# Altium footprint library Switch.PcbLib: 18 footprints (part 1 of 2)
Each footprint in its own frame and in the unit in brackets; x right, y up, seen from the top. Pads: shape width x height; smd on the part's side, far side on the other; paste and mask are expansions set on the pad; w line width, h text height; cw(c..) or ccw(c..) is an arc to the next point about the centre after c.
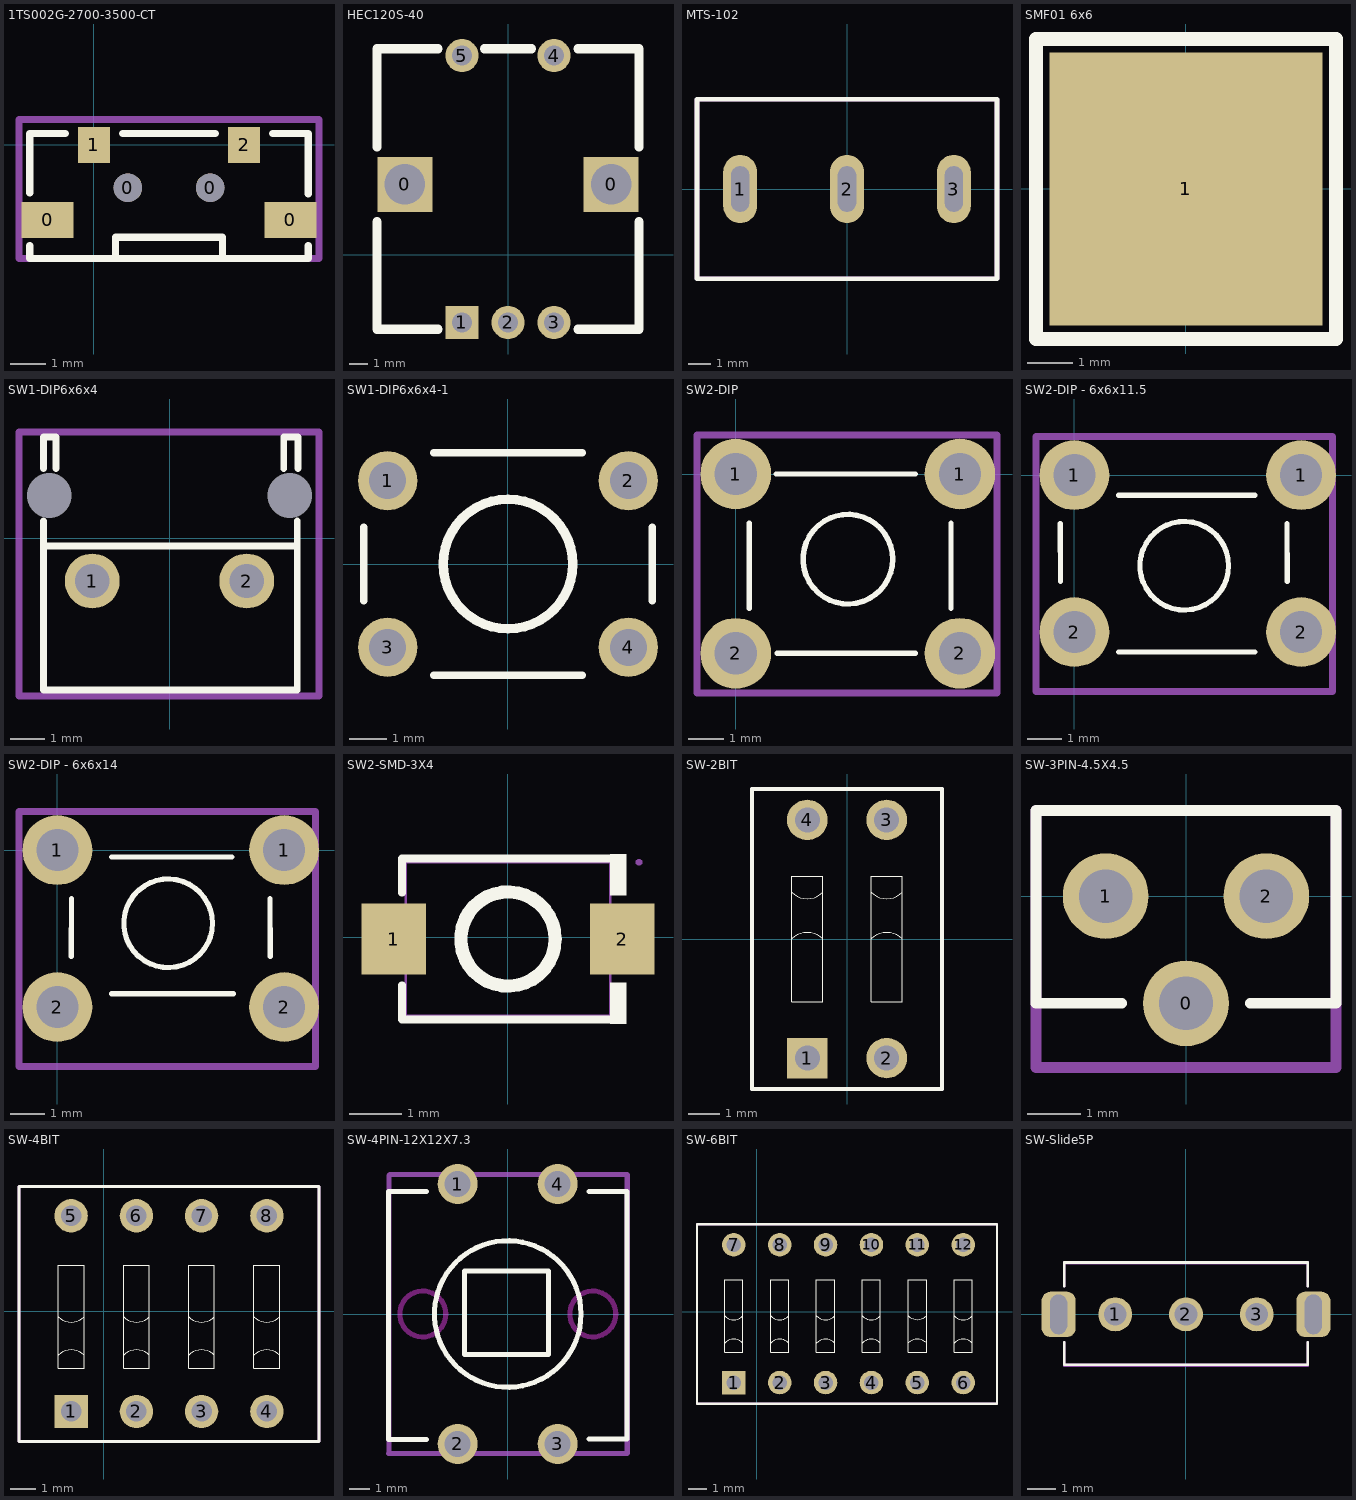
[diagram p0: the footprints below, top view; thin cyan lines are the x and y axes]

## 1TS002G-2700-3500-CT [mm]
pads (6):
  rect 1.45x1 smd: 0(-1.3,-2.1) 0(5.5,-2.1)
  round 0.8 hole 0.8 unplated: 0(0.95,-1.2) 0(3.25,-1.2)
  rect 0.9x1 smd: 1(0,0) 2(4.2,0)
Top Overlay:
  lines w0.2: -1.8,-2.825 -1.8,-3.185 6,-3.185 6,-2.825 ; -1.8,-1.35 -1.8,0.315 -0.8,0.315 ; 0.6,-3.185 0.6,-2.585 3.6,-2.585 3.6,-3.185 ; 0.8,0.315 3.4,0.315 ; 5,0.315 6,0.315 6,-1.375
Mechanical 13:
  lines w0.2: -2.1,-3.185 6.3,-3.185 6.3,0.715 -2.1,0.715 -2.1,-3.185
  text ".Designator" at -0.3,-1.485 h1
Mechanical 15:
  lines w0.2: -2.1,-3.185 6.3,-3.185 6.3,0.715 -2.1,0.715 -2.1,-3.185
  text ".Comment" at -0.3,-1.485 h1
3D body "TL3330AFxxxQG.stp": height 3.5, standoff 0, extent -1.8,-3.185 6,0.324

## HEC120S-40 [mm]
pads (7):
  rect 3x3 hole 2.2 square: 0(-5.6,3.81) 0(5.6,3.81)
  rect 1.8x1.8 hole 1.1: 1(-2.5,-3.69)
  round 1.8 hole 1.1: 2(0,-3.69) 3(2.5,-3.69) 4(2.5,10.81) 5(-2.5,10.81)
Top Overlay:
  lines w0.5: -7.112,1.778 -7.112,-4.064 -3.81,-4.064 ; -7.112,5.842 -7.112,11.176 -3.81,11.176 ; -1.27,11.176 1.27,11.176 ; 3.81,-4.064 7.112,-4.064 7.112,1.778 ; 3.81,11.176 7.112,11.176 7.112,5.842
3D body "num xoay.stp": height 17.7, standoff -5.8, extent -6.996,-4.091 6.996,11.203

## MTS-102 [mm]
pads (3):
  oval 1.5x3 hole 2 slot 0.8 at 0 deg: 1(-4.7,0) 2(0,0) 3(4.7,0)
Top Overlay:
  lines w0.2: -6.6,-3.95 -6.6,3.95 6.6,3.95 6.6,-3.95 -6.6,-3.95
Mechanical 13:
  lines w0.2: -6.6,-3.95 -6.6,3.95 6.6,3.95 6.6,-3.95 -6.6,-3.95
  text ".Designator" at -2.7,-0.517 h1.5

## SMF01 6x6 [mm]
pads (1):
  rect 6x6 smd: 1(0,0)
Top Overlay:
  lines w0.3: -3.302,-3.302 -3.302,3.302 3.302,3.302 3.302,-3.302 -3.302,-3.302
3D body: height 10, standoff 0, extent -3.302,-3.302 3.302,3.302

## SW1-DIP6x6x4 [mm]
pads (4):
  round 1.6 hole 1: 1(-2.25,-1.245) 2(2.25,-1.245)
  round 0 hole 1.3: ""(-3.5,1.245) ""(3.5,1.245)
Top Overlay:
  lines w0.2: -3.672,-0.229 3.694,-0.229 ; -3.672,0.508 -3.672,-4.42 3.719,-4.42 3.719,0.508 ; -3.672,2.032 -3.672,2.946 -3.302,2.946 -3.302,2.032 ; 3.327,2.032 3.327,2.946 3.744,2.946 3.744,2.032
Mechanical 13:
  lines w0.2: -4.384,-4.598 -4.384,3.098 -4.104,3.098 4.354,3.098 4.354,-4.598 -4.384,-4.598
  text ".Designator" at -3.454,-0.279 h1.5
Mechanical 15:
  lines w0.2: -4.384,-4.598 4.354,-4.598 4.354,3.098 -4.104,3.098 -4.384,3.098 -4.384,-4.598
  text ".Comment" at -3.454,-0.279 h1.5
3D body "SW3dPS-SWITCH, TACTILE, RIGHT ANGLE, 12VDC, 50MA, 3.15MM ACTUATOR, WEALTH METAL TC-0240Z.STEP": height 7, standoff -4, extent -3.681,-4.412 3.719,2.888

## SW1-DIP6x6x4-1 [mm]
pads (4):
  round 1.6 hole 1: 1(-3.25,2.25) 2(3.25,2.25) 3(-3.25,-2.25) 4(3.25,-2.25)
Top Overlay:
  circle w0.254: c0,0 r1.75
  lines w0.2: -3.9,-1 -3.9,0 -3.9,1 ; -2,-3 0,-3 2,-3 ; -2,3 0,3 2,3 ; 3.9,-1 3.9,0 3.9,1
3D body "1825910-3.stp": height 4.5, standoff -3.31, extent -3.9,-2.995 3.9,2.995

## SW2-DIP [mm] "SW button 4pin, 250 x250 mil"
height 2.54
pads (4):
  round 2 hole 1.2: 1(0,0) 1(6.35,0) 2(0,-5.08) 2(6.35,-5.08)
Top Overlay:
  circle w0.152: c3.175,-2.413 r1.27
  lines w0.152: 0.381,-3.81 0.381,-1.397 ; 1.143,0 5.08,0 ; 1.168,-5.08 5.08,-5.08 ; 6.096,-3.81 6.096,-1.397
  lines w0.178: 6.071,-5.461 6.096,-5.436
Mechanical 13:
  lines w0.2: -1.1,-6.2 7.4,-6.2 7.4,1.1 -1.1,1.1 -1.1,-6.2
  text ".Designator" at 1.1,-3.3 h1.5
3D body "SW3dPS-.STEP": height 7, standoff -3.5, extent -0.902,-5.588 6.998,0.612

## SW2-DIP - 6x6x11.5 [mm] "SW button 4pin, 250 x250 mil"
height 2.54
pads (4):
  round 2 hole 1.2: 1(0,0) 1(6.5,0) 2(0,-4.5) 2(6.5,-4.5)
Top Overlay:
  circle w0.152: c3.15,-2.6 r1.27
  lines w0.152: -0.404,-1.397 -0.4,-3.05 ; 1.263,-5.075 5.175,-5.075 ; 1.263,-0.575 5.175,-0.575 ; 6.096,-1.397 6.1,-3.05
Mechanical 13:
  lines w0.2: -1.1,-6.2 7.4,-6.2 7.4,1.1 -1.1,1.1 -1.1,-6.2
  text ".Designator" at 1.1,-3.3 h1.5
3D body: height 10, standoff -10, extent 8.55,2.075 8.55,2.075
3D body: height 11.5, standoff 9.5, extent 1.55,-4.122 5.05,-0.622
3D body "User Library-Tact_Switch_TS-064.STEP": height 9.5, standoff -3.5, extent -0.65,-5.35 7,0.65

## SW2-DIP - 6x6x14 [mm] "SW button 4pin, 250 x250 mil"
height 2.54
pads (4):
  round 2 hole 1.2: 1(0,0) 1(6.5,0) 2(0,-4.5) 2(6.5,-4.5)
Top Overlay:
  circle w0.152: c3.175,-2.1 r1.27
  lines w0.152: 0.4,-3.05 0.404,-1.397 ; 1.55,-4.122 5.05,-4.122 ; 1.55,-0.2 5,-0.2 ; 6.096,-1.397 6.1,-3.05
Mechanical 13:
  lines w0.2: -1.1,-6.2 -1.1,1.1 7.4,1.1 7.4,-6.2 -1.1,-6.2
  text ".Designator" at 1.1,-3.3 h1.5
3D body "User Library-Tact_Switch_TS-064.STEP": height 9.5, standoff -3.5, extent -0.65,-5.35 7,0.65
3D body: height 14, standoff 9.5, extent 1.55,-4.122 5.05,-0.622

## SW2-SMD-3X4 [mm] "SW button 4pin, 250 x250 mil"
height 2.54
pads (2):
  rect 1.23x1.36 smd: 1(-2.179,-0.034) 2(2.191,-0.034)
Top Overlay:
  circle w0.254: c0.006,-0.034 r0.9
  region: 1.956,1.584 1.956,0.799 2.261,0.799 2.261,1.584
  region: 1.956,-1.651 1.956,-0.866 2.261,-0.866 2.261,-1.651
  lines w0.152: -2.02,-0.917 -2.02,-1.575 2.032,-1.575 ; -2.02,0.85 -2.02,1.508 2.032,1.508
Mechanical 15:
  region: -2.494,0.616 -2.494,-0.684 -1.594,-0.684 -1.594,0.616
  region: 2.506,0.616 2.506,-0.684 1.606,-0.684 1.606,0.616
  region: 2.566,1.431 2.566,1.456 2.531,1.491 2.481,1.492 2.446,1.456 2.446,1.432 2.446,1.407 2.481,1.372 2.531,1.371 2.566,1.407 2.566,1.431
  lines w0.051: -1.944,-1.499 -1.944,1.431 1.956,1.431 1.956,-1.499 -1.944,-1.499

## SW-2BIT [mm] "02p, 2.54mm Pitch, Horizontal, Box Type, THT, flat Actuator, red, without Tape, Tube"
height 5.2
pads (4):
  rect 1.3x1.3 hole 0.8: 1(-1.27,-3.81)
  round 1.3 hole 0.8: 2(1.27,-3.81) 3(1.27,3.81) 4(-1.27,3.81)
Top Overlay:
  lines w0.025: -1.77,0 cw(c-1.27,-0.5) -0.77,0 ; -1.77,1.5 ccw(c-1.27,2) -0.77,1.5 ; 0.77,0 cw(c1.27,-0.5) 1.77,0 ; 0.77,1.5 ccw(c1.27,2) 1.77,1.5 ; -1.77,-2 -1.77,2 -0.77,2 -0.77,-2 -1.77,-2 ; 0.77,-2 0.77,2 1.77,2 1.77,-2 0.77,-2
  lines w0.127: -3.04,-4.8 3.04,-4.8 ; -3.04,-4.8 -3.04,4.8 ; -3.04,-4.8 3.04,-4.8 ; -3.04,-4.8 -3.04,4.8 ; -3.04,4.8 3.04,4.8 ; -3.04,4.8 3.04,4.8 ; 3.04,-4.8 3.04,4.8 ; 3.04,-4.8 3.04,4.8
Mechanical 13:
  lines w0.127: -3.04,-4.8 3.04,-4.8 ; -3.04,-4.8 -3.04,4.8 ; -3.04,-4.8 3.04,-4.8 ; -3.04,-4.8 -3.04,4.8 ; -3.04,4.8 3.04,4.8 ; -3.04,4.8 3.04,4.8 ; 3.04,-4.8 3.04,4.8 ; 3.04,-4.8 3.04,4.8
  text ".Designator" at -1.9,-0.417 h1.5
3D body "418117170902.stp": height 5.4, standoff -3.8, extent -3.04,-4.7 3.04,4.9

## SW-3PIN-4.5X4.5 [mm]
pads (3):
  round 1.6 hole 1: 0(0,-2) 1(-1.5,0) 2(1.5,0)
Top Overlay:
  lines w0.2: -1.2,-2 -2.8,-2 -2.8,1.6 2.8,1.6 2.8,-2 1.2,-2
Mechanical 13:
  lines w0.2: -2.8,-3.2 -2.8,1.6 -1.361,1.6 2.8,1.6 2.8,-3.2 -2.8,-3.2
Mechanical 15:
  lines w0.2: -2.8,-3.2 2.8,-3.2 2.8,1.6 -2.8,1.6 -2.8,-3.2

## SW-4BIT [mm]
pads (8):
  rect 1.3x1.3 hole 0.8: 1(-1.27,-3.91)
  round 1.3 hole 0.8: 2(1.27,-3.91) 3(3.81,-3.91) 4(6.35,-3.91) 5(-1.27,3.71) 6(1.27,3.71) 7(3.81,3.71) 8(6.35,3.71)
Top Overlay:
  lines w0.025: -1.77,-1.722 cw(c-1.27,-2.222) -0.77,-1.722 ; -1.77,-0.222 ccw(c-1.27,0.278) -0.77,-0.222 ; 0.77,-1.722 cw(c1.27,-2.222) 1.77,-1.722 ; 0.77,-0.222 ccw(c1.27,0.278) 1.77,-0.222 ; 3.31,-1.722 cw(c3.81,-2.222) 4.31,-1.722 ; 3.31,-0.222 ccw(c3.81,0.278) 4.31,-0.222 ; 5.85,-1.722 cw(c6.35,-2.222) 6.85,-1.722 ; 5.85,-0.222 ccw(c6.35,0.278) 6.85,-0.222 ; -1.77,-2.222 -0.77,-2.222 -0.77,1.778 -1.77,1.778 -1.77,-2.222 ; 0.77,-2.222 1.77,-2.222 1.77,1.778 0.77,1.778 0.77,-2.222 ; 3.31,-2.222 4.31,-2.222 4.31,1.778 3.31,1.778 3.31,-2.222 ; 5.85,-2.222 6.85,-2.222 6.85,1.778 5.85,1.778 5.85,-2.222
  lines w0.127: -3.302,-5.08 -3.302,4.85 8.382,4.85 8.382,-5.08 -3.302,-5.08
Mechanical 13:
  lines w0.127: -3.302,-5.08 -3.302,4.85 8.382,4.85 8.382,-5.08 -3.302,-5.08
  text ".Designator" at -1.27,-0.733 h1.5
3D body "418117170902.stp": height 5.4, standoff -3.8, extent 2.302,-4.915 8.382,4.685
3D body "418117170902.stp": height 5.4, standoff -3.8, extent -3.302,-4.915 2.778,4.685

## SW-4PIN-12X12X7.3 [mm]
pads (4):
  round 2 hole 1.3: 1(-2.5,6.5) 2(-2.5,-6.5) 3(2.5,-6.5) 4(2.5,6.5)
Top Overlay:
  circle w0.254: c0,0 r3.663
  lines w0.254: -4.064,-6.274 -5.969,-6.274 -5.969,6.121 -4.064,6.121 ; 4.064,-6.248 5.969,-6.248 5.969,6.121 4.064,6.121 ; -2.159,-2.032 2.032,-2.032 2.032,2.159 -2.159,2.159 -2.159,-2.032
Keep-Out Layer:
  circle w0.254: c-4.25,0 r1.15
  circle w0.254: c4.25,0 r1.15
Mechanical 13:
  lines w0.254: -5.969,-6.985 -5.944,-6.96 -5.944,6.934 -5.893,6.985 5.969,6.985 5.969,-6.96 5.944,-6.985 -5.969,-6.985
  text ".Designator" at -2.946,-0.203 h0.64
Mechanical 15:
  lines w0.254: -5.944,-6.985 -5.944,6.934 -5.893,6.985 5.969,6.985 5.994,6.96 5.994,-6.96 5.969,-6.985 -5.944,-6.985
  text ".Comment" at -2.946,-0.203 h0.64
3D body "User Library-Button 12x12x7_3.step": height 7, standoff -2.7, extent -5.95,-6.925 5.95,6.925

## SW-6BIT [mm]
pads (12):
  rect 1.3x1.3 hole 0.8: 1(-1.27,-3.91)
  round 1.3 hole 0.8: 2(1.27,-3.91) 3(3.81,-3.91) 4(6.35,-3.91) 5(8.89,-3.91) 6(11.43,-3.91) 7(-1.27,3.71) 8(1.27,3.71) 9(3.81,3.71) 10(6.35,3.71) 11(8.89,3.71) 12(11.43,3.71)
Top Overlay:
  lines w0.025: -1.77,-1.722 cw(c-1.27,-2.222) -0.77,-1.722 ; -1.77,-0.222 ccw(c-1.27,0.278) -0.77,-0.222 ; 0.77,-1.722 cw(c1.27,-2.222) 1.77,-1.722 ; 0.77,-0.222 ccw(c1.27,0.278) 1.77,-0.222 ; 3.31,-1.722 cw(c3.81,-2.222) 4.31,-1.722 ; 3.31,-0.222 ccw(c3.81,0.278) 4.31,-0.222 ; 5.85,-1.722 cw(c6.35,-2.222) 6.85,-1.722 ; 5.85,-0.222 ccw(c6.35,0.278) 6.85,-0.222 ; 8.398,-1.718 cw(c8.898,-2.218) 9.398,-1.718 ; 8.398,-0.218 ccw(c8.898,0.282) 9.398,-0.218 ; 10.93,-1.722 cw(c11.43,-2.222) 11.93,-1.722 ; 10.93,-0.222 ccw(c11.43,0.278) 11.93,-0.222 ; -1.77,-2.222 -1.77,1.778 -0.77,1.778 -0.77,-2.222 -1.77,-2.222 ; 0.77,-2.222 0.77,1.778 1.77,1.778 1.77,-2.222 0.77,-2.222 ; 3.31,-2.222 3.31,1.778 4.31,1.778 4.31,-2.222 3.31,-2.222 ; 5.85,-2.222 5.85,1.778 6.85,1.778 6.85,-2.222 5.85,-2.222 ; 8.398,-2.218 8.398,1.782 9.398,1.782 9.398,-2.218 8.398,-2.218 ; 10.93,-2.222 10.93,1.778 11.93,1.778 11.93,-2.222 10.93,-2.222
  lines w0.127: -3.302,-5.08 13.298,-5.08 13.298,4.85 -3.302,4.85 -3.302,-5.08
Mechanical 13:
  lines w0.127: -3.302,-5.08 13.298,-5.08 13.298,4.85 -3.302,4.85 -3.302,-5.08
  text ".Designator" at -1.27,-0.733 h1.5
3D body "418117170902.stp": height 5.4, standoff -3.8, extent -3.302,-4.915 2.778,4.685
3D body "418117170902.stp": height 5.4, standoff -3.8, extent 2.04,-4.915 8.12,4.685
3D body "418117170902.stp": height 5.4, standoff -3.8, extent 7.113,-4.942 13.193,4.658

## SW-Slide5P [mm]
pads (5):
  round 1.2 hole 0.8: 1(-2.5,0) 2(0,0) 3(2.5,0)
  rrect50% 1.2x1.6 hole 1.4 slot 0.6 at 0 deg: ""(-4.5,0) ""(4.5,0)
Top Overlay:
  lines w0.1: -4.3,-1 -4.3,-1.778 4.3,-1.778 4.3,-1 ; -4.3,1 -4.3,1.829 4.3,1.829 4.3,1
Mechanical 13:
  lines w0.1: -4.3,-1 -4.3,-1.778 4.3,-1.778 4.3,-1 ; -4.3,1 -4.3,1.829 4.3,1.829 4.3,1
  text ".Designator" at -3,1 h1.5
Mechanical 15:
  lines w0.1: -4.3,-1 -4.3,-1.803 4.3,-1.803 4.3,-1 ; -4.3,1 -4.3,1.803 4.3,1.803 4.3,1
  text ".Value" at -3,1 h1.5
3D body "User Library-SS12D00G4.step": height 5.5, standoff -4, extent -4.5,-1.8 4.5,1.8